# EAGLE library part SEEEDUINO-MEGA (library moudle)
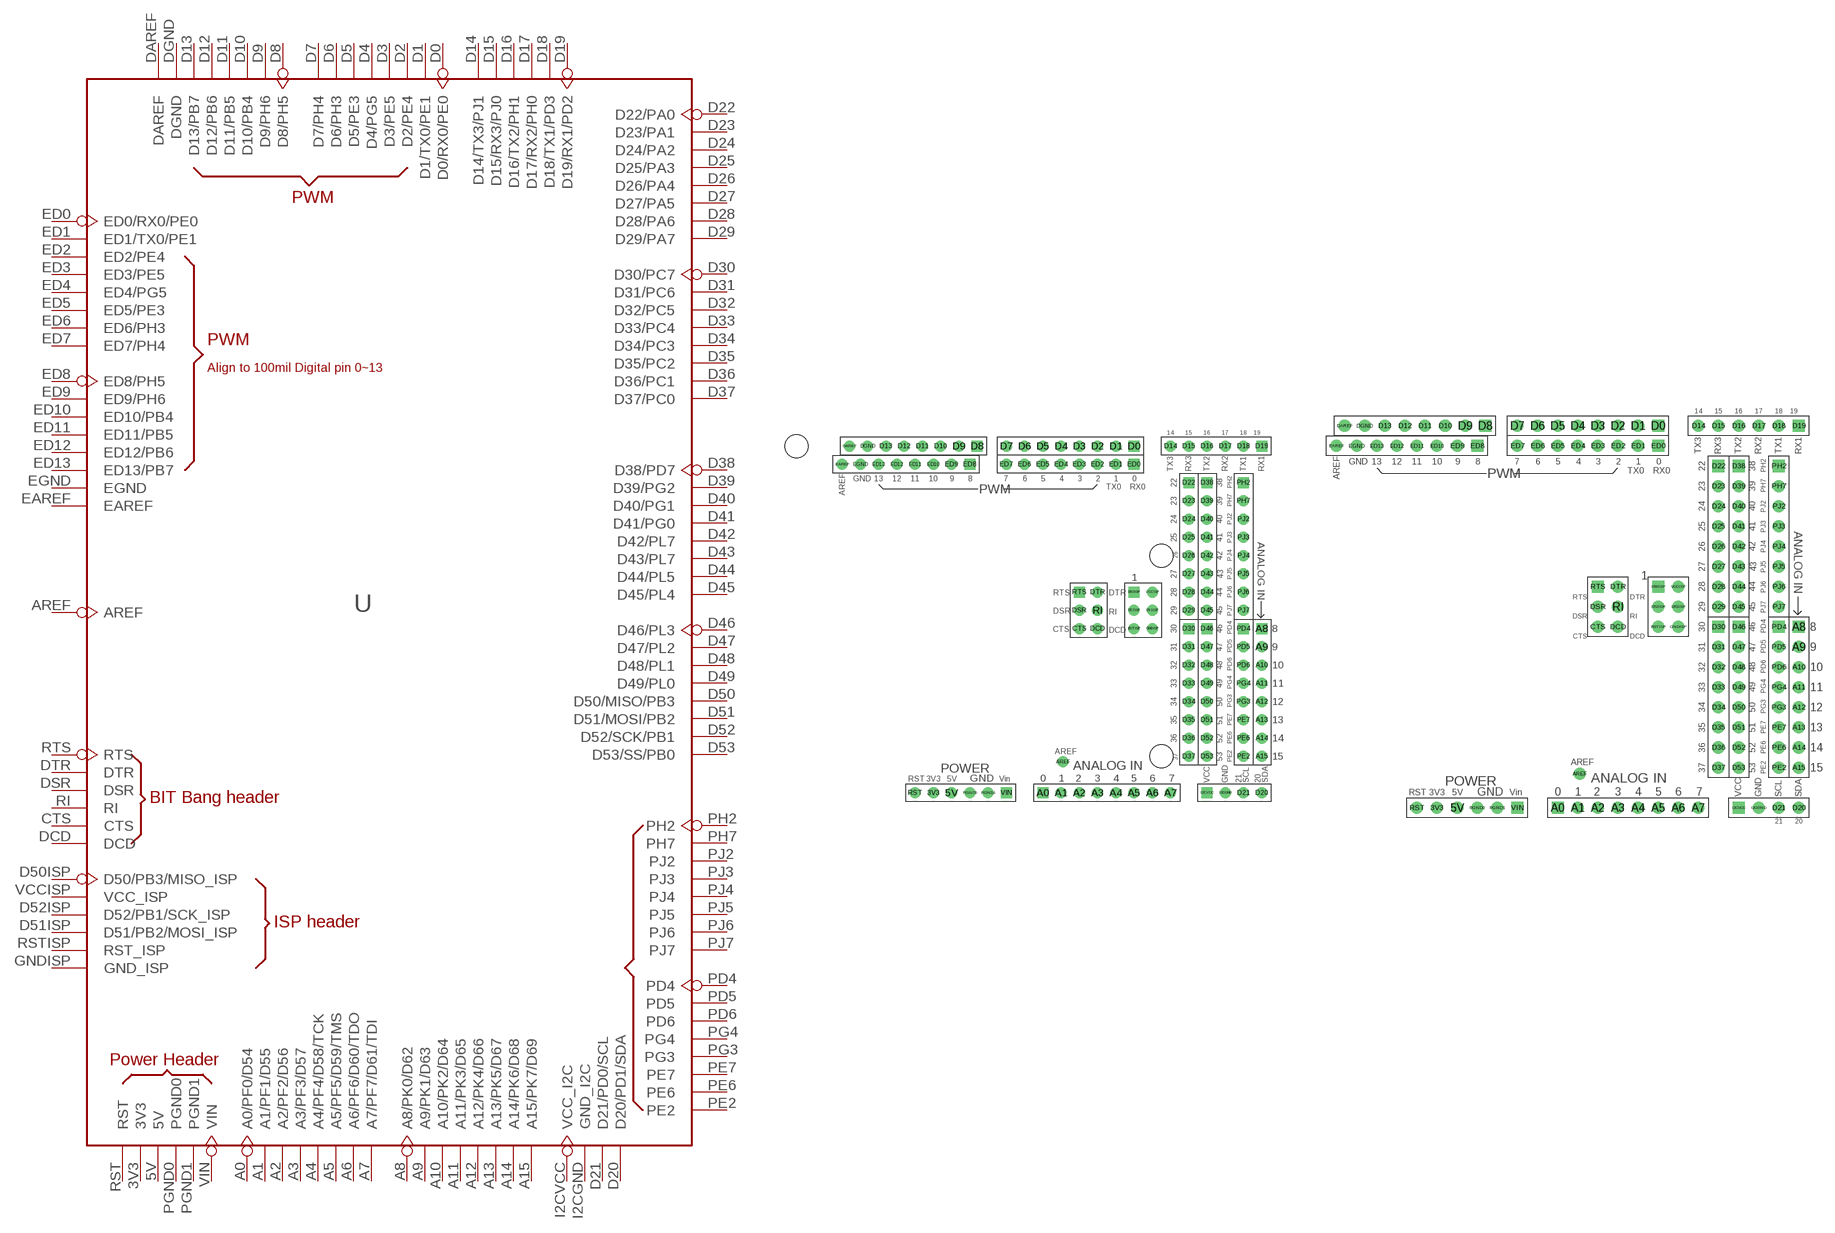
[diagram p14: symbol with the pads of SEEED-MEGA-W/-DRILL; footprints SEEED-MEGA-W/-DRILL, SEEED-MEGA-W/O-DRILL]

Designator prefix U

## SEEEDUINO-MEGA-W/-DRILL  [SEEED-MEGA-W/-DRILL]
3V3  3V3
5V  5V
A0  A0/PF0/D54
A1  A1/PF1/D55
A2  A2/PF2/D56
A3  A3/PF3/D57
A4  A4/PF4/D58/TCK
A5  A5/PF5/D59/TMS
A6  A6/PF6/D60/TDO
A7  A7/PF7/D61/TDI
A8  A8/PK0/D62
A9  A9/PK1/D63
A10  A10/PK2/D64
A11  A11/PK3/D65
A12  A12/PK4/D66
A13  A13/PK5/D67
A14  A14/PK6/D68
A15  A15/PK7/D69
AREF  AREF
CTS  CTS
D0  D0/RX0/PE0
D1  D1/TX0/PE1
D2  D2/PE4
D3  D3/PE5
D4  D4/PG5
D5  D5/PE3
D6  D6/PH3
D7  D7/PH4
D8  D8/PH5
D9  D9/PH6
D10  D10/PB4
D11  D11/PB5
D12  D12/PB6
D13  D13/PB7
D14  D14/TX3/PJ1
D15  D15/RX3/PJ0
D16  D16/TX2/PH1
D17  D17/RX2/PH0
D18  D18/TX1/PD3
D19  D19/RX1/PD2
D20  D20/PD1/SDA
D21  D21/PD0/SCL
D22  D22/PA0
D23  D23/PA1
D24  D24/PA2
D25  D25/PA3
D26  D26/PA4
D27  D27/PA5
D28  D28/PA6
D29  D29/PA7
D30  D30/PC7
D31  D31/PC6
D32  D32/PC5
D33  D33/PC4
D34  D34/PC3
D35  D35/PC2
D36  D36/PC1
D37  D37/PC0
D38  D38/PD7
D39  D39/PG2
D40  D40/PG1
D41  D41/PG0
D42  D42/PL7
D43  D43/PL7
D44  D44/PL5
D45  D45/PL4
D46  D46/PL3
D47  D47/PL2
D48  D48/PL1
D49  D49/PL0
D50  D50/MISO/PB3
D50ISP  D50/PB3/MISO_ISP
D51  D51/MOSI/PB2
D51ISP  D51/PB2/MOSI_ISP
D52  D52/SCK/PB1
D52ISP  D52/PB1/SCK_ISP
D53  D53/SS/PB0
DAREF  DAREF
DCD  DCD
DGND  DGND
DSR  DSR
DTR  DTR
EAREF  EAREF
ED0  ED0/RX0/PE0
ED1  ED1/TX0/PE1
ED2  ED2/PE4
ED3  ED3/PE5
ED4  ED4/PG5
ED5  ED5/PE3
ED6  ED6/PH3
ED7  ED7/PH4
ED8  ED8/PH5
ED9  ED9/PH6
ED10  ED10/PB4
ED11  ED11/PB5
ED12  ED12/PB6
ED13  ED13/PB7
EGND  EGND
GNDISP  GND_ISP
I2CGND  GND_I2C
I2CVCC  VCC_I2C
PD4  PD4
PD5  PD5
PD6  PD6
PE2  PE2
PE6  PE6
PE7  PE7
PG3  PG3
PG4  PG4
PGND0  PGND0
PGND1  PGND1
PH2  PH2
PH7  PH7
PJ2  PJ2
PJ3  PJ3
PJ4  PJ4
PJ5  PJ5
PJ6  PJ6
PJ7  PJ7
RI  RI
RST  RST
RSTISP  RST_ISP
RTS  RTS
VCCISP  VCC_ISP
VIN  VIN

## SEEEDUINO-MEGA-W/O-DRILL  [SEEED-MEGA-W/O-DRILL]
Pads as for SEEED-MEGA-W/-DRILL

## Footprint SEEED-MEGA-W/-DRILL (pad centres in mm)
drill 0.889 pad 1.524: 3V3 21.59,2.54; 5V 24.13,2.54; A1 39.37,2.54; A2 41.91,2.54; A3 44.45,2.54; A4 46.99,2.54; A5 49.53,2.54; A6 52.07,2.54; A7 54.61,2.54; A9 67.31,22.86; A10 67.31,20.32; A11 67.31,17.78; A12 67.31,15.24; A13 67.31,12.7; A14 67.31,10.16; A15 67.31,7.62; AREF 39.624,6.858; CTS 41.91,25.4; D1 46.99,50.8; D2 44.45,50.8; D3 41.91,50.8; D4 39.37,50.8; D5 36.83,50.8; D6 34.29,50.8; D7 31.75,50.8; D9 25.146,50.8; D10 22.606,50.8; D11 20.066,50.8; D12 17.526,50.8; D13 14.986,50.8; D14 54.61,50.8; D15 57.15,50.8; D16 59.69,50.8; D17 62.23,50.8; D18 64.77,50.8; D20 67.31,2.54; D21 64.77,2.54; D23 57.15,43.18; D24 57.15,40.64; D25 57.15,38.1; D26 57.15,35.56; D27 57.15,33.02; D28 57.15,30.48; D29 57.15,27.94; D31 57.15,22.86; D32 57.15,20.32; D33 57.15,17.78; D34 57.15,15.24; D35 57.15,12.7; D36 57.15,10.16; D37 57.15,7.62; D39 59.69,43.18; D40 59.69,40.64; D41 59.69,38.1; D42 59.69,35.56; D43 59.69,33.02; D44 59.69,30.48; D45 59.69,27.94; D47 59.69,22.86; D48 59.69,20.32; D49 59.69,17.78; D50 59.69,15.24; D51 59.69,12.7; D51ISP 52.07,27.94; D52 59.69,10.16; D52ISP 49.53,27.94; D53 59.69,7.62; DAREF 9.906,50.8; DCD 44.45,25.4; DGND 12.446,50.8; DSR 41.91,27.94; DTR 44.45,30.48; EAREF 8.89,48.26; ED1 46.99,48.26; ED2 44.45,48.26; ED3 41.91,48.26; ED4 39.37,48.26; ED5 36.83,48.26; ED6 34.29,48.26; ED7 31.75,48.26; ED9 24.13,48.26; ED10 21.59,48.26; ED11 19.05,48.26; ED12 16.51,48.26; ED13 13.97,48.26; EGND 11.43,48.26; GNDISP 52.07,25.4; I2CGND 62.23,2.54; PD5 64.77,22.86; PD6 64.77,20.32; PE2 64.77,7.62; PE6 64.77,10.16; PE7 64.77,12.7; PG3 64.77,15.24; PG4 64.77,17.78; PGND0 26.67,2.54; PGND1 29.21,2.54; PH7 64.77,43.18; PJ2 64.77,40.64; PJ3 64.77,38.1; PJ4 64.77,35.56; PJ5 64.77,33.02; PJ6 64.77,30.48; PJ7 64.77,27.94; RI 44.45,27.94; RST 19.05,2.54; RSTISP 49.53,25.4; VCCISP 52.07,30.48
drill 0.889 pad 1.524 square: A0 36.83,2.54; A8 67.31,25.4; D0 49.53,50.8; D8 27.686,50.8; D19 67.31,50.8; D22 57.15,45.72; D30 57.15,25.4; D38 59.69,45.72; D46 59.69,25.4; D50ISP 49.53,30.48; ED0 49.53,48.26; ED8 26.67,48.26; I2CVCC 59.69,2.54; PD4 64.77,25.4; PH2 64.77,45.72; RTS 41.91,30.48; VIN 31.75,2.54
hole 3.2 at 2.54,50.8
hole 3.2 at 53.34,7.62
hole 3.2 at 53.34,35.56

## Footprint SEEED-MEGA-W/O-DRILL (pad centres in mm)
drill 0.889 pad 1.524: 3V3 21.59,2.54; 5V 24.13,2.54; A1 39.37,2.54; A2 41.91,2.54; A3 44.45,2.54; A4 46.99,2.54; A5 49.53,2.54; A6 52.07,2.54; A7 54.61,2.54; A9 67.31,22.86; A10 67.31,20.32; A11 67.31,17.78; A12 67.31,15.24; A13 67.31,12.7; A14 67.31,10.16; A15 67.31,7.62; AREF 39.624,6.858; CTS 41.91,25.4; D1 46.99,50.8; D2 44.45,50.8; D3 41.91,50.8; D4 39.37,50.8; D5 36.83,50.8; D6 34.29,50.8; D7 31.75,50.8; D9 25.146,50.8; D10 22.606,50.8; D11 20.066,50.8; D12 17.526,50.8; D13 14.986,50.8; D14 54.61,50.8; D15 57.15,50.8; D16 59.69,50.8; D17 62.23,50.8; D18 64.77,50.8; D20 67.31,2.54; D21 64.77,2.54; D23 57.15,43.18; D24 57.15,40.64; D25 57.15,38.1; D26 57.15,35.56; D27 57.15,33.02; D28 57.15,30.48; D29 57.15,27.94; D31 57.15,22.86; D32 57.15,20.32; D33 57.15,17.78; D34 57.15,15.24; D35 57.15,12.7; D36 57.15,10.16; D37 57.15,7.62; D39 59.69,43.18; D40 59.69,40.64; D41 59.69,38.1; D42 59.69,35.56; D43 59.69,33.02; D44 59.69,30.48; D45 59.69,27.94; D47 59.69,22.86; D48 59.69,20.32; D49 59.69,17.78; D50 59.69,15.24; D51 59.69,12.7; D51ISP 52.07,27.94; D52 59.69,10.16; D52ISP 49.53,27.94; D53 59.69,7.62; DAREF 9.906,50.8; DCD 44.45,25.4; DGND 12.446,50.8; DSR 41.91,27.94; DTR 44.45,30.48; EAREF 8.89,48.26; ED1 46.99,48.26; ED2 44.45,48.26; ED3 41.91,48.26; ED4 39.37,48.26; ED5 36.83,48.26; ED6 34.29,48.26; ED7 31.75,48.26; ED9 24.13,48.26; ED10 21.59,48.26; ED11 19.05,48.26; ED12 16.51,48.26; ED13 13.97,48.26; EGND 11.43,48.26; GNDISP 52.07,25.4; I2CGND 62.23,2.54; PD5 64.77,22.86; PD6 64.77,20.32; PE2 64.77,7.62; PE6 64.77,10.16; PE7 64.77,12.7; PG3 64.77,15.24; PG4 64.77,17.78; PGND0 26.67,2.54; PGND1 29.21,2.54; PH7 64.77,43.18; PJ2 64.77,40.64; PJ3 64.77,38.1; PJ4 64.77,35.56; PJ5 64.77,33.02; PJ6 64.77,30.48; PJ7 64.77,27.94; RI 44.45,27.94; RST 19.05,2.54; RSTISP 49.53,25.4; VCCISP 52.07,30.48
drill 0.889 pad 1.524 square: A0 36.83,2.54; A8 67.31,25.4; D0 49.53,50.8; D8 27.686,50.8; D19 67.31,50.8; D22 57.15,45.72; D30 57.15,25.4; D38 59.69,45.72; D46 59.69,25.4; D50ISP 49.53,30.48; ED0 49.53,48.26; ED8 26.67,48.26; I2CVCC 59.69,2.54; PD4 64.77,25.4; PH2 64.77,45.72; RTS 41.91,30.48; VIN 31.75,2.54